# Altium integrated library MAX485ESA_T.IntLib: 1 symbol
Pins are listed as number, name and electrical type; pins without a type are passive.

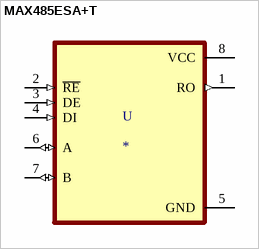
[diagram p0: symbol MAX485ESA+T]

## MAX485ESA+T
designator U
1/1 Transceiver Half RS422, RS485 8-SOIC; MF: Maxim Integrated; MP: MAX485ESA+T; Digi-Key_Purchase_URL: https://www.digikey.hu/product-detail/en/maxim-integrated/MAX485ESA-T/MAX485ESA-TCT-ND/3647897?utm_source=snapeda&utm_medium=aggregator&utm_campaign=symbol; Digi-Key_Part_Number: MAX485ESA+TCT-ND; SnapEDA_Link: https://www.snapeda.com/parts/MAX485ESA%2BT/Maxim%20Integrated/view-part/549140/?ref=snap; Package: SOIC-8 Maxim; Value: *
footprint SOIC127P600X175-8N
pins: 1 RO (out), 2 ~{RE} (in), 3 DE (in), 4 DI (in), 5 GND (power), 6 A (io), 7 B (io), 8 VCC (power)